# Altium footprint library DB3.PcbLib: 1 footprints
Each footprint in its own frame and in the unit in brackets; x right, y up, seen from the top. Pads: shape width x height; smd on the part's side, far side on the other; paste and mask are expansions set on the pad; w line width, h text height; cw(c..) or ccw(c..) is an arc to the next point about the centre after c.
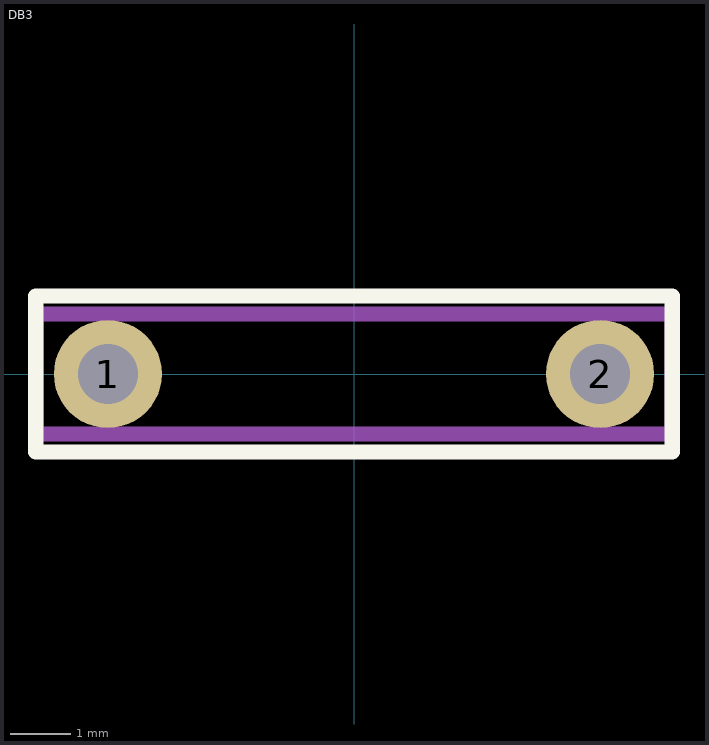
[diagram p0: the footprint, top view; thin cyan lines are the x and y axes]

## DB3 [mm]
pads (2):
  round 1.8 hole 1: 1(-4.1,0) 2(4.1,0)
Top Overlay:
  lines w0.254: -5.3,-1.3 -5.3,1.3 5.3,1.3 5.3,-1.3 -5.3,-1.3
Top Assembly:
  lines w0.254: -5.3,-1 -5.3,1 5.3,1 5.3,-1 -5.3,-1
  text "'.Designator'" at 0,0 h0.7
3D body "User Library-DO-35G-30.STEP": height 1.82, standoff -2, extent -4.085,-0.894 4.085,0.894